# Altium footprint library C14MC10B.PcbLib: 1 footprints
Each footprint in its own frame and in the unit in brackets; x right, y up, seen from the top. Pads: shape width x height; smd on the part's side, far side on the other; paste and mask are expansions set on the pad; w line width, h text height; cw(c..) or ccw(c..) is an arc to the next point about the centre after c.
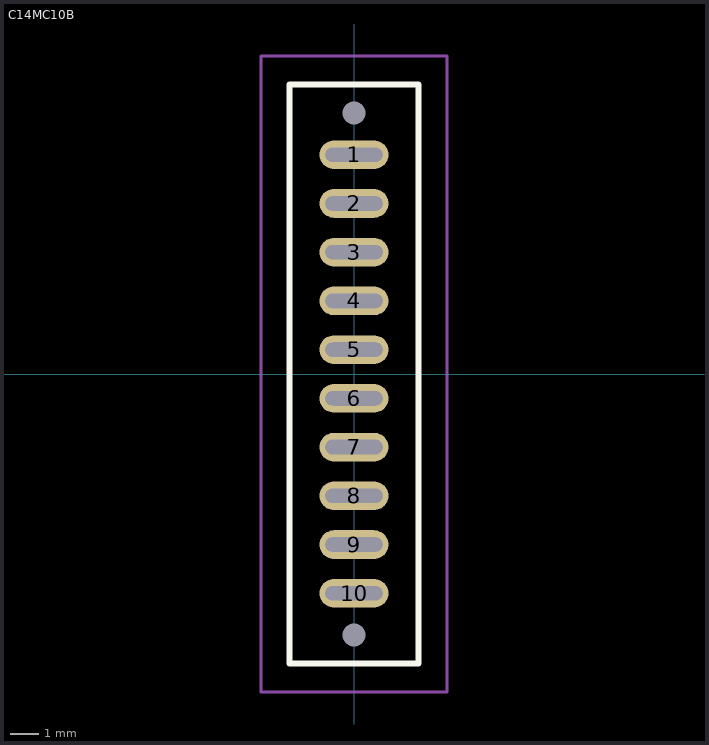
[diagram p0: the footprint, top view; thin cyan lines are the x and y axes]

## C14MC10B [mm] "10 Pin Battery male connector"
pads (12):
  round 0 hole 0.8 unplated: 0(0,-9.1) 0(0,9.1)
  oval 2.4x1 hole 0.5 slot 2 at 0 deg: 1(0,7.65) 2(0,5.95) 3(0,4.25) 4(0,2.55) 5(0,0.85) 6(0,-0.85) 7(0,-2.55) 8(0,-4.25) 9(0,-5.95) 10(0,-7.65)
Top Overlay:
  lines w0.2: -2.25,-10.1 -2.25,10.1 2.25,10.1 2.25,-10.1 -2.25,-10.1
Top Courtyard:
  lines w0.1: -3.25,-11.1 3.25,-11.1 3.25,11.1 -3.25,11.1 -3.25,-11.1
3D body "DS-C14M.STEP": height 6.3, standoff -2.05, extent -2.25,-10.1 2.25,10.1